# EAGLE library part DF12B-50DX_25X2_0.5MM (library Custom)
DF12B-50Dx 25 x 2 pin 0.5mm Stacking Header Supports both DF12B(5.0)-50DP-0.5V and DF12B-50DS-0.5V
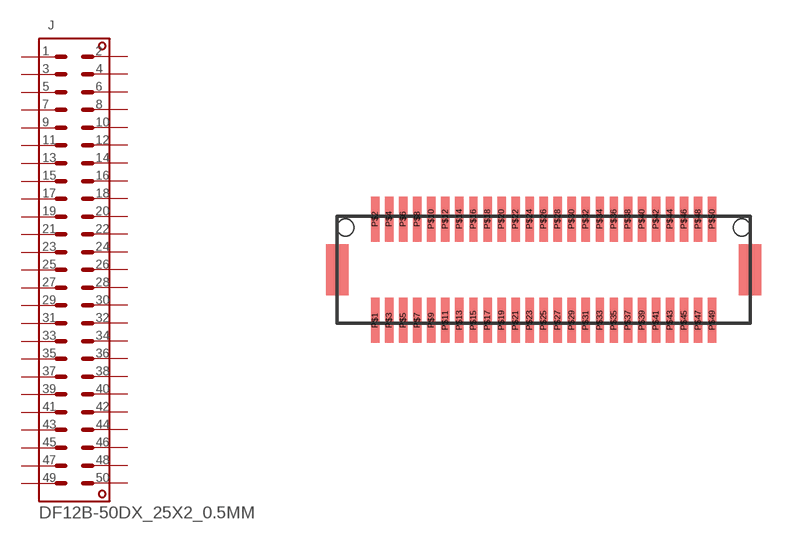
[diagram p10: symbol with the pads of DF12B-50DX_25X2_0.5MM; footprint DF12B-50DX_25X2_0.5MM]

Designator prefix J

## DF12B-50DX_25X2_0.5MM  [DF12B-50DX_25X2_0.5MM]
P$1  S1  pas
P$2  S2  pas
P$3  S3  pas
P$4  S4  pas
P$5  S5  pas
P$6  S6  pas
P$7  S7  pas
P$8  S8  pas
P$9  S9  pas
P$10  S10  pas
P$11  S11  pas
P$12  S12  pas
P$13  S13  pas
P$14  S14  pas
P$15  S15  pas
P$16  S16  pas
P$17  S17  pas
P$18  S18  pas
P$19  S19  pas
P$20  S20  pas
P$21  S21  pas
P$22  S22  pas
P$23  S23  pas
P$24  S24  pas
P$25  S25  pas
P$26  S26  pas
P$27  S27  pas
P$28  S28  pas
P$29  S29  pas
P$30  S30  pas
P$31  S31  pas
P$32  S32  pas
P$33  S33  pas
P$34  S34  pas
P$35  S35  pas
P$36  S36  pas
P$37  S37  pas
P$38  S38  pas
P$39  S39  pas
P$40  S40  pas
P$41  S41  pas
P$42  S42  pas
P$43  S43  pas
P$44  S44  pas
P$45  S45  pas
P$46  S46  pas
P$47  S47  pas
P$48  S48  pas
P$49  S49  pas
P$50  S50  pas

## Footprint DF12B-50DX_25X2_0.5MM (pad centres in mm)
smd 0.3 x 1.6: P$1 -6,-1.8; P$2 -6,1.8; P$3 -5.5,-1.8; P$4 -5.5,1.8; P$5 -5,-1.8; P$6 -5,1.8; P$7 -4.5,-1.8; P$8 -4.5,1.8; P$9 -4,-1.8; P$10 -4,1.8; P$11 -3.5,-1.8; P$12 -3.5,1.8; P$13 -3,-1.8; P$14 -3,1.8; P$15 -2.5,-1.8; P$16 -2.5,1.8; P$17 -2,-1.8; P$18 -2,1.8; P$19 -1.5,-1.8; P$20 -1.5,1.8; P$21 -1,-1.8; P$22 -1,1.8; P$23 -0.5,-1.8; P$24 -0.5,1.8; P$25 0,-1.8; P$26 0,1.8; P$27 0.5,-1.8; P$28 0.5,1.8; P$29 1,-1.8; P$30 1,1.8; P$31 1.5,-1.8; P$32 1.5,1.8; P$33 2,-1.8; P$34 2,1.8; P$35 2.5,-1.8; P$36 2.5,1.8; P$37 3,-1.8; P$38 3,1.8; P$39 3.5,-1.8; P$40 3.5,1.8; P$41 4,-1.8; P$42 4,1.8; P$43 4.5,-1.8; P$44 4.5,1.8; P$45 5,-1.8; P$46 5,1.8; P$47 5.5,-1.8; P$48 5.5,1.8; P$49 6,-1.8; P$50 6,1.8
hole 0.6 at -7.05,1.5
hole 0.6 at 7.05,1.5